# EAGLE library part FH40-24S-0.5SV (library Birdhouse)
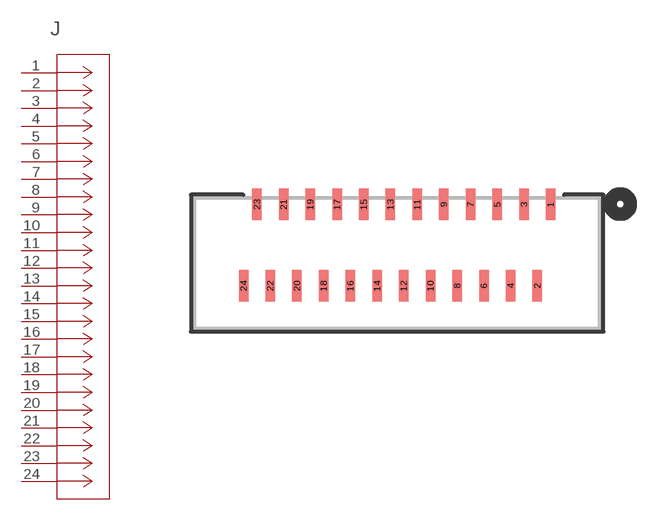
[diagram p7: symbol with the pads of CONN_FH40-24S-0.5SV_HIR; footprint CONN_FH40-24S-0.5SV_HIR]

Designator prefix J

## FH40-24S-0.5SV (COPYRIGHT: Copyright (C) 2023 Ultra Librarian. All rights reserved.; DIGI-KEY_PART_NUMBER_1: HFW24TR-ND; DIGI-KEY_PART_NUMBER_2: HFW24CT-ND; DIGI-KEY_PART_NUMBER_3: HFW24DKR-ND; MANUFACTURER_PART_NUMBER: FH40-24S-0.5SV; MFR_NAME: Hirose)  [CONN_FH40-24S-0.5SV_HIR]
1  1  pas
2  2  pas
3  3  pas
4  4  pas
5  5  pas
6  6  pas
7  7  pas
8  8  pas
9  9  pas
10  10  pas
11  11  pas
12  12  pas
13  13  pas
14  14  pas
15  15  pas
16  16  pas
17  17  pas
18  18  pas
19  19  pas
20  20  pas
21  21  pas
22  22  pas
23  23  pas
24  24  pas

## Footprint CONN_FH40-24S-0.5SV_HIR (pad centres in mm)
smd 0.356 x 1.194: 1 5.75,2.201; 2 5.25,-0.849; 3 4.75,2.201; 4 4.25,-0.849; 5 3.75,2.201; 6 3.25,-0.849; 7 2.75,2.201; 8 2.25,-0.849; 9 1.75,2.201; 10 1.25,-0.849; 11 0.75,2.201; 12 0.25,-0.849; 13 -0.25,2.201; 14 -0.75,-0.849; 15 -1.25,2.201; 16 -1.75,-0.849; 17 -2.25,2.201; 18 -2.75,-0.849; 19 -3.25,2.201; 20 -3.75,-0.849; 21 -4.25,2.201; 22 -4.75,-0.849; 23 -5.25,2.201; 24 -5.75,-0.849